# Altium schematic symbol library BQ76925PWR.Schlib: 1 symbol
Pins are listed as number, name and electrical type; pins without a type are passive.

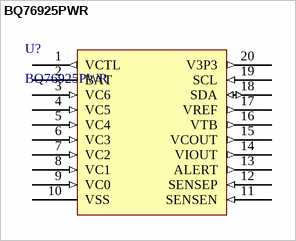
[diagram p0: symbol BQ76925PWR]

## BQ76925PWR
designator U?
Battery Multi-Function Controller IC Lithium Ion/Polymer 20-TSSOP
pins: 1 VCTL (out), 2 BAT (power), 3 VC6 (in), 4 VC5 (in), 5 VC4 (in), 6 VC3 (in), 7 VC2 (in), 8 VC1 (in), 9 VC0 (in), 10 VSS (power), 11 SENSEN (in), 12 SENSEP (in), 13 ALERT (out), 14 VIOUT (out), 15 VCOUT (out), 16 VTB (out), 17 VREF (out), 18 SDA (io), 19 SCL (in), 20 V3P3 (out)